# Altium integrated library Integrated_Library - 02.05.18 - 20.36.IntLib: 1 symbol
Pins are listed as number, name and electrical type; pins without a type are passive.

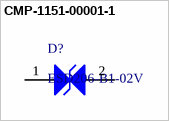
[diagram p0: symbol CMP-1151-00001-1]

## CMP-1151-00001-1
designator D?, comment ESD206-B1-02V
Ultra Low Clamping Bi-Directional ESD / Transient / Surge Protection Diode, -55 to 125 degC, PG-SC79-2, Reel, Green; Manufacturer: Infineon; VESD (min): -30 kV; Green: TRUE; CL (typ): 12 pF; IEFT: 50A; VRWM (min): -5.5 V; VRWM (max): 5.5 V; Rdyn typ reverse: 0.15 Ohm; Isurge: 6A; CL (max): 20 pF; IR (max): 50 nA; VESD (max): 30 kV; PackageReference: PG-SC79-2-1; ComponentLink2URL: http://www.infineon.com/dgdl/ESD206-B1-02V_rev_1_2.pdf?folderId=db3a30431f848401011fcbf2ab4c04c4&fileId=db3a30433ea3aef6013ea805d3da06b5; PartNumber: ESD206-B1-02V; Mounting Technology: Surface Mount; PackageDescription: 2-Pin Semiconductor Package, 0.8 x 1.2 mm Body, 1.35 mm Pitch; DatasheetVersion: Rev. 1.2; ComponentLink2Description: Datasheet; Packing: Reel; Halogen-free: TRUE; ComponentLink1Description: Manufacturer URL; Rdyn typ forward: 0.15 Ohm; PackageVersion: Apr-08; ComponentLink3Description: Package Specification; ComponentLink1URL: http://www.infineon.com/; ComponentLink3URL: http://www.infineon.com/dgdl/SC79-Package_Overview.pdf?folderId=db3a30431936bc4b011951fbddb03b15&fileId=db3a30431936bc4b01195226fe583b41
footprint INF-PG-SC79-2-1_V (SC79, 2-Leads, Body 1.2x0.8mm, Pitch 1.35mm)
pins: 1 C, 2 C